# Altium footprint library IC.PcbLib: 99 footprints (part 7 of 7)
Each footprint in its own frame and in the unit in brackets; x right, y up, seen from the top. Pads: shape width x height; smd on the part's side, far side on the other; paste and mask are expansions set on the pad; w line width, h text height; cw(c..) or ccw(c..) is an arc to the next point about the centre after c.
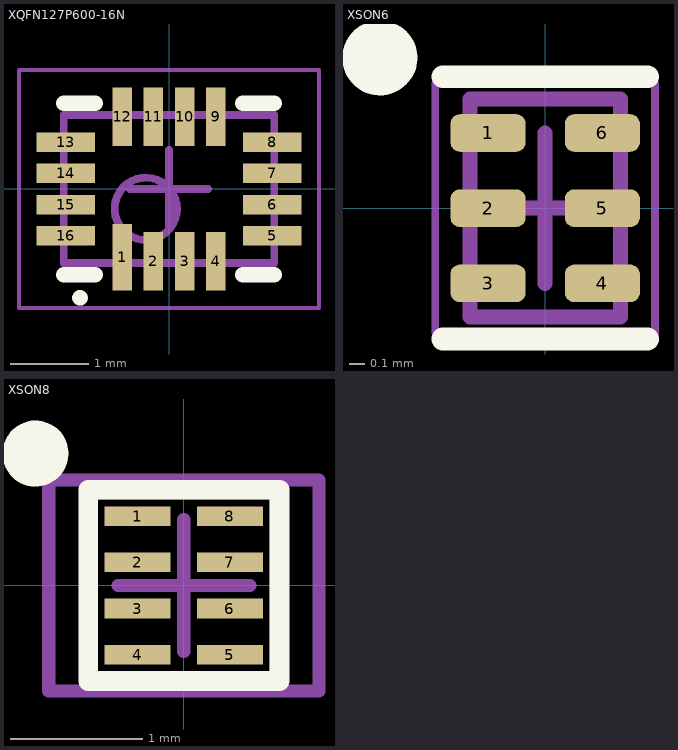
[diagram p6: the footprints below, top view; thin cyan lines are the x and y axes]

## XQFN127P600-16N [mm] "XQFN16 (SOT1161-1, PCA9574)"
height 0.5
pads (16):
  rect 0.25x0.85 smd mask+0.05: 1(-0.6,-0.875)
  rect 0.25x0.75 smd mask+0.05: 2(-0.2,-0.925) 3(0.2,-0.925) 4(0.6,-0.925) 9(0.6,0.925) 10(0.2,0.925) 11(-0.2,0.925) 12(-0.6,0.925)
  rect 0.75x0.25 smd mask+0.05: 5(1.325,-0.6) 6(1.325,-0.2) 7(1.325,0.2) 8(1.325,0.6) 13(-1.325,0.6) 14(-1.325,0.2) 15(-1.325,-0.2) 16(-1.325,-0.6)
Top Overlay:
  circle w0.1: c-1.142,-1.397 r0.05
  lines w0.2: -1.35,-1.1 -0.95,-1.1 ; -1.35,1.1 -0.95,1.1 ; 0.95,-1.1 1.35,-1.1 ; 0.95,1.1 1.35,1.1
Mechanical 13:
  circle w0.1: c-0.298,-0.254 r0.4
  lines w0.1: -1.35,-0.95 1.35,-0.95 1.35,0.95 -1.35,0.95 -1.35,-0.95
  text ".Designator" at -1.813,1.643 h0.5
Mechanical 15:
  lines w0.05: -1.925,-1.525 1.925,-1.525 1.925,1.525 -1.925,1.525 -1.925,-1.525
  lines w0.1: -0.5,0 0.5,0 ; 0,-0.5 0,0.5
3D body: height 0.5, standoff 0.02, extent -1.35,-0.95 1.35,0.95

## XSON6 [mm]
height 0.55
pads (6):
  rrect50% 0.5x0.25 smd mask+0.05: 1(-0.38,0.5) 2(-0.38,0) 3(-0.38,-0.5) 4(0.38,-0.5) 5(0.38,0) 6(0.38,0.5)
Top Overlay:
  circle w0.25: c-1.1,1 r0.125
  lines w0.15: -0.68,-0.87 0.68,-0.87 ; -0.68,0.875 0.68,0.875
Mechanical 13:
  lines w0.1: -0.5,-0.725 -0.5,0.725 0.5,0.725 0.5,-0.725 -0.5,-0.725
Mechanical 15:
  lines w0.05: -0.73,-0.83 0.73,-0.83 0.73,0.83 -0.73,0.83 -0.73,-0.83
  lines w0.1: -0.5,0 0.5,0 ; 0,-0.5 0,0.5
3D body: height 0.55, standoff 0, extent -0.5,-0.725 0.5,0.725

## XSON8 [mm] "XSON8, 8-Leads, Body 1.4x1.4mm (max), Pitch 0.35mm, IPC High Density"
height 0.5
pads (8):
  rect 0.5x0.15 smd mask+0.05: 1(-0.35,0.525) 2(-0.35,0.175) 3(-0.35,-0.175) 4(-0.35,-0.525) 5(0.35,-0.525) 6(0.35,-0.175) 7(0.35,0.175) 8(0.35,0.525)
Top Overlay:
  circle w0.25: c-1.125,1 r0.125
  lines w0.15: -0.725,-0.725 0.725,-0.725 0.725,0.725 -0.725,0.725 -0.725,-0.725
Mechanical 13:
  lines w0.1: -0.7,-0.7 0.7,-0.7 0.7,0.7 -0.7,0.7 -0.7,-0.7
  text ".Designator" at -1.75,1 h0.5
Mechanical 15:
  lines w0.1: -0.5,0 0.5,0 ; 0,-0.5 0,0.5 ; -1.025,-0.8 1.025,-0.8 1.025,0.8 -1.025,0.8 -1.025,-0.8
3D body: height 0.5, standoff 0.04, extent -0.7,-0.7 0.7,0.7